# Altium schematic symbol library MPU9250.SchLib: 1 symbol
Pins are listed as number, name and electrical type; pins without a type are passive.

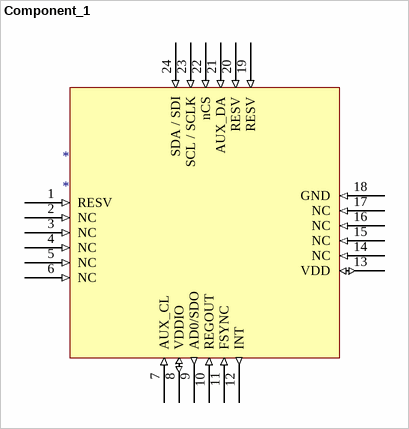
[diagram p0: symbol Component_1]

## Component_1
designator *
footprint QFN40P300X300X105_HS-25N (QFN, 24-Leads, Body 3,00x3,00mm, Pitch 0,40mm, Thermal Pad 1,70x1,54mm, IPC Medium Density)
pins: 1 RESV (in), 2 NC (in), 3 NC (in), 4 NC (in), 5 NC (in), 6 NC (in), 7 AUX_CL (in), 8 VDDIO (io), 9 AD0/SDO (out), 10 REGOUT (in), 11 FSYNC (in), 12 INT (out), 13 VDD (io), 14 NC (in), 15 NC (in), 16 NC (in), 17 NC (in), 18 GND (in), 19 RESV (in), 20 RESV (in), 21 AUX_DA (in), 22 nCS (in), 23 SCL / SCLK (in), 24 SDA / SDI (in)